# EAGLE library part XIAO (library XiaoWeatherStation)
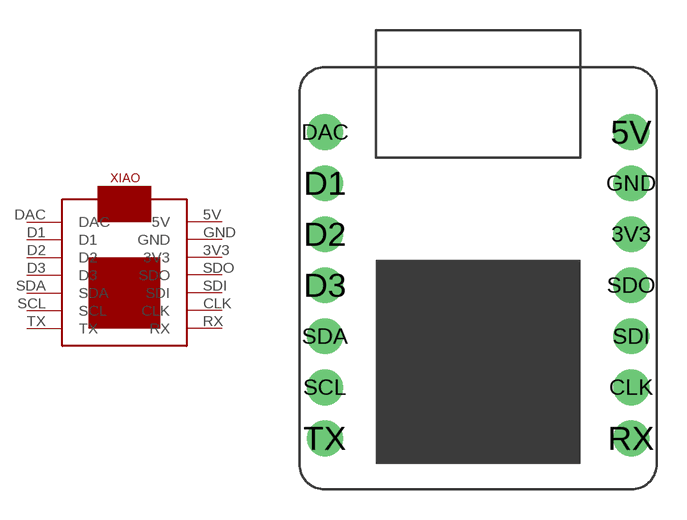
[diagram p0: symbol with the pads of XIAO; footprint XIAO]

Designator prefix -

## XIAO  [XIAO]
3V3  3V3
5V  5V
CLK  CLK
D1  D1
D2  D2
D3  D3
DAC  DAC
GND  GND
RX  RX
SCL  SCL
SDA  SDA
SDI  SDI
SDO  SDO
TX  TX

## Footprint XIAO (pad centres in mm)
drill 0.8 pad 1.778: 3V3 16.51,12.7; 5V 16.51,17.78; CLK 16.51,5.08; D1 1.27,15.24; D2 1.27,12.7; D3 1.27,10.16; DAC 1.27,17.78; GND 16.51,15.24; RX 16.51,2.54; SCL 1.27,5.08; SDA 1.27,7.62; SDI 16.51,7.62; SDO 16.51,10.16; TX 1.27,2.54